# EAGLE library part 1X06-PROTO (library Ai_Connectors)
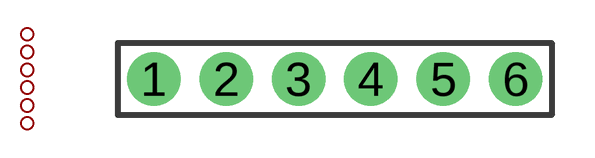
[diagram p6: symbol with the pads of 1X06-NOFIRST; footprint 1X06-NOFIRST]

Designator prefix -

## 1X06-PROTO  [1X06-NOFIRST]
1  1
2  2
3  3
4  4
5  5
6  6

## Footprint 1X06-NOFIRST (pad centres in mm)
drill 1.016 pad 1.88: 1 -6.35,0; 2 -3.81,0; 3 -1.27,0; 4 1.27,0; 5 3.81,0; 6 6.35,0